# Altium schematic symbol library Yageo.SchLib: 9 symbols
Pins are listed as number, name and electrical type; pins without a type are passive.

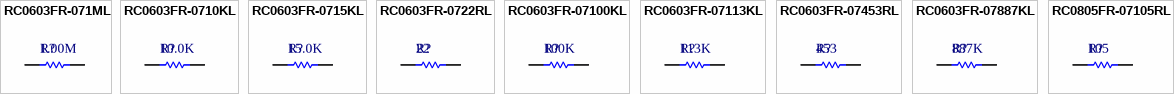
[diagram p0: symbols RC0603FR-071ML to RC0805FR-07105RL]

## RC0603FR-071ML
designator R?  value 1.00M  (hidden comment: RC0603FR-071ML)
RES SMD 1M OHM 1% 1/10W 0603; Manufacturer: Yageo; Power: 0.1W; Tolerance: 1%; PartNumber: RC0603FR-071ML; Supplier 1: Digi-Key; Supplier 2: Mouser; Supplier Part Number 1: 311-887KHRCT-ND; Supplier Part Number 2: 603-RC0603FR-07887KL
simulation model Resistor (Resistor model)
footprint RES-0603 (Chip Resistor 0603)
pins: 1, 2

## RC0603FR-0710KL
designator R?  value 10.0K  (hidden comment: RC0603FR-0710KL)
RES SMD 10.0K OHM 1% 1/10W 0603; Manufacturer: Yageo; Power: 0.1W; Tolerance: 1%; PartNumber: RC0603FR-0710KL; Supplier 1: Digi-Key; Supplier Part Number 1: 311-100KCRCT-ND; Supplier 2: Mouser; Supplier Part Number 2: 603-RC0805FR-07100KL
simulation model Resistor (Resistor model)
footprint RES-0603 (Chip Resistor 0603)
pins: 1, 2

## RC0603FR-0715KL
designator R?  value 15.0K  (hidden comment: RC0603FR-0715KL)
RES SMD 15.0K OHM 1% 1/10W 0603; Manufacturer: Yageo; Power: 0.1W; Tolerance: 1%; PartNumber: RC0603FR-0715KL
simulation model Resistor (Resistor model)
footprint RES-0603 (Chip Resistor 0603)
pins: 1, 2

## RC0603FR-0722RL
designator R?  value 22  (hidden comment: RC0603FR-0722RL)
RES SMD 22 OHM 1% 1/10W 0603; Manufacturer: Yageo; Power: 0.1W; Tolerance: 1%; PartNumber: RC0603FR-0722RL
simulation model Resistor (Resistor model)
footprint RES-0603 (Chip Resistor 0603)
pins: 1, 2

## RC0603FR-07100KL
designator R?  value 100K  (hidden comment: RC0603FR-07100KL)
RES SMD 100K OHM 1% 1/10W 0603; Manufacturer: Yageo; Power: 0.1W; Tolerance: 1%; PartNumber: RC0603FR-07100KL; Supplier 1: Digi-Key; Supplier 2: Mouser; Supplier Part Number 1: 311-100KHRCT-ND; Supplier Part Number 2: 603-RC0603FR-07100KL
simulation model Resistor (Resistor model)
footprint RES-0603 (Chip Resistor 0603)
pins: 1, 2

## RC0603FR-07113KL
designator R?  value 113K  (hidden comment: RC0603FR-07113KL)
RES SMD 113K OHM 1% 1/10W 0603; Manufacturer: Yageo; Power: 0.1W; Tolerance: 1%; PartNumber: RC0603FR-07113KL; Supplier 1: Digi-Key; Supplier 2: Mouser; Supplier Part Number 2: 603-RC0603FR-07113KL; Supplier Part Number 1: 311-113KHRCT-ND
simulation model Resistor (Resistor model)
footprint RES-0603 (Chip Resistor 0603)
pins: 1, 2

## RC0603FR-07453RL
designator R?  value 453  (hidden comment: RC0603FR-07453RL)
RES SMD 453 OHM 1% 1/10W 0603; Manufacturer: Yageo; Power: 0.1W; Tolerance: 1%; PartNumber: RC0603FR-07453RL; Supplier 1: Digi-Key; Supplier 2: Mouser; Supplier Part Number 1: 311-887KHRCT-ND; Supplier Part Number 2: 603-RC0603FR-07887KL
simulation model Resistor (Resistor model)
footprint RES-0603 (Chip Resistor 0603)
pins: 1, 2

## RC0603FR-07887KL
designator R?  value 887K  (hidden comment: RC0603FR-07887KL)
RES SMD 887K OHM 1% 1/10W 0603; Manufacturer: Yageo; Power: 0.1W; Tolerance: 1%; PartNumber: RC0603FR-07887KL; Supplier 1: Digi-Key; Supplier 2: Mouser; Supplier Part Number 1: 311-887KHRCT-ND; Supplier Part Number 2: 603-RC0603FR-07887KL
simulation model Resistor (Resistor model)
footprint RES-0603 (Chip Resistor 0603)
pins: 1, 2

## RC0805FR-07105RL
designator R?, comment value 105  (hidden comment: RC0805FR-07100KL)
RES SMD 105 OHM 1% 1/8W 0805; Manufacturer: Yageo; Power: 0.125W; Tolerance: 1%; PartNumber: RC0805FR-07100KL; Supplier 1: Digi-Key; Supplier Part Number 1: 311-100KCRCT-ND; Supplier 2: Mouser; Supplier Part Number 2: 603-RC0805FR-07100KL
simulation model Resistor (Resistor model)
pins: 1, 2